# EAGLE library part TDK_PXD_15_5V (library TeamB_Task11)
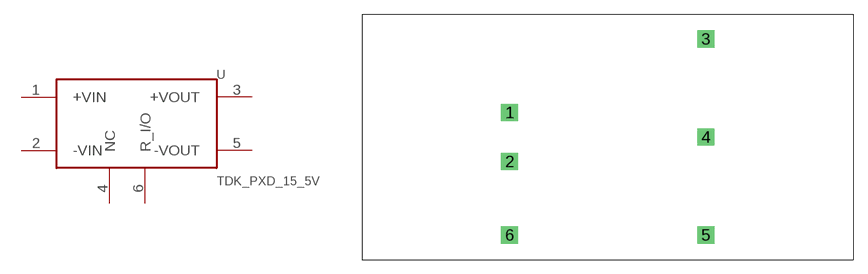
[diagram p0: symbol with the pads of TDK-PXD_15-5V; footprint TDK-PXD_15-5V]

Designator prefix -

## TDK_PXD_15_5V  [TDK-PXD_15-5V]
1  +VIN
2  -VIN
3  +VOUT
4  NC  nc
5  -VOUT
6  R_I/O

## Footprint TDK-PXD_15-5V (pad centres in mm)
drill 1.2 pad 1.676 square: 1 -10.16,2.54; 2 -10.16,-2.54; 3 10.16,10.16; 4 10.16,0; 5 10.16,-10.16; 6 -10.16,-10.16